# Altium schematic symbol library WE-PD3.SchLib: 65 symbols (part 1 of 2)
Pins are listed as number, name and electrical type; pins without a type are passive.

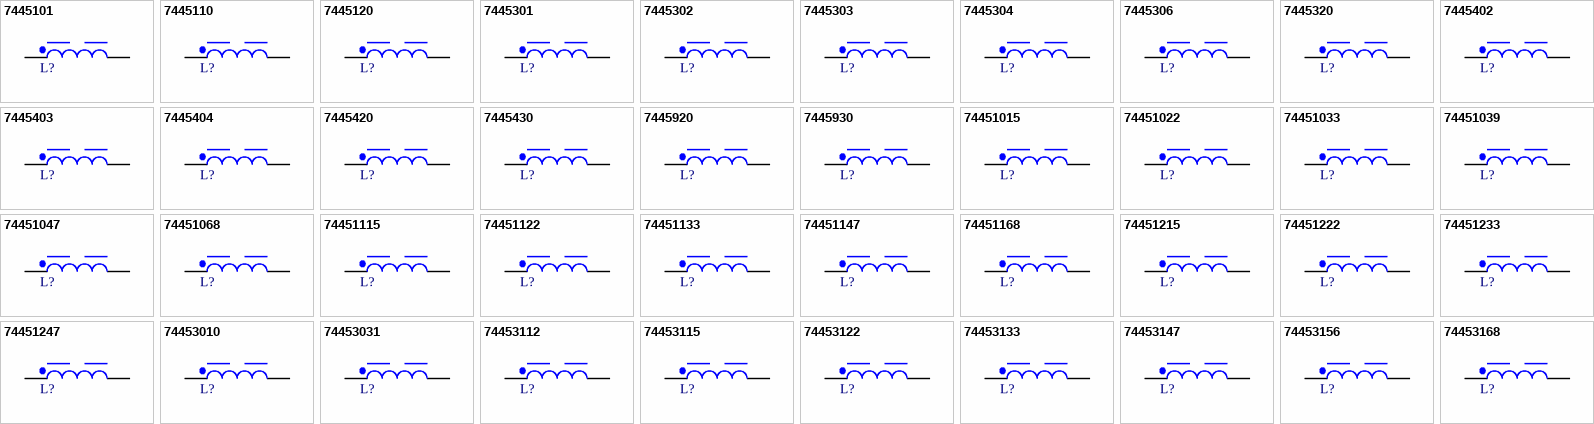
[diagram p0: symbols 7445101 to 74453168]

## 7445101
designator L?, comment 1µH, 3A  (value not drawn)
WE-PD3 SMT Power Inductor, Type S, 1µH, 3A, 0.04Ω; Manufacturer Part Number: 7445101; Manufacturer: Wurth Elektronik; Case/Size Code: Type S; DC Resistance: 0.014Ω; Saturation Current: 1.62A; Self Resonant Frequency: 83MHz; Category: Shielded Power Inductors; Match Code: WE-PD3; ComponentLink1Description: Website Link; ComponentLink1URL: https://www.we-online.com/redexpert/article/7445101?ad; ComponentLink2Description: Datasheet Link; ComponentLink2URL: https://www.we-online.com/redexpert/spec/7445101?ad; Mount: Surface Mount; Operating Temperature Max: 125°C; Operating Temperature Min: -40°C; Packaging: Tape and Reel; Length: 6.6mm; Width: 4.45mm; Height: 2.92mm; DC Resistance Max: 0.04Ω; Inductance: 1µH; Rated Current: 3A
footprint WE-PD3_Type S
simulation model TypeS_7445101_1u
pins: 1, 2

## 7445110
designator L?, comment 10µH, 1A  (value not drawn)
WE-PD3 SMT Power Inductor, Type S, 10µH, 1A, 0.075Ω; Manufacturer Part Number: 7445110; Manufacturer: Wurth Elektronik; Case/Size Code: Type S; DC Resistance: 0.056Ω; Saturation Current: 0.45A; Self Resonant Frequency: 30MHz; Category: Shielded Power Inductors; Match Code: WE-PD3; ComponentLink1Description: Website Link; ComponentLink1URL: https://www.we-online.com/redexpert/article/7445110?ad; ComponentLink2Description: Datasheet Link; ComponentLink2URL: https://www.we-online.com/redexpert/spec/7445110?ad; Mount: Surface Mount; Operating Temperature Max: 125°C; Operating Temperature Min: -40°C; Packaging: Tape and Reel; Length: 6.6mm; Width: 4.45mm; Height: 2.92mm; DC Resistance Max: 0.075Ω; Inductance: 10µH; Rated Current: 1A
footprint WE-PD3_Type S
simulation model TypeS_7445110_10u
pins: 1, 2

## 7445120
designator L?, comment 100µH, 0.3A  (value not drawn)
WE-PD3 SMT Power Inductor, Type S, 100µH, 0.3A, 0.48Ω; Manufacturer Part Number: 7445120; Manufacturer: Wurth Elektronik; Case/Size Code: Type S; DC Resistance: 0.393Ω; Saturation Current: 0.09A; Self Resonant Frequency: 8MHz; Category: Shielded Power Inductors; Match Code: WE-PD3; ComponentLink1Description: Website Link; ComponentLink1URL: https://www.we-online.com/redexpert/article/7445120?ad; ComponentLink2Description: Datasheet Link; ComponentLink2URL: https://www.we-online.com/redexpert/spec/7445120?ad; Mount: Surface Mount; Operating Temperature Max: 125°C; Operating Temperature Min: -40°C; Packaging: Tape and Reel; Length: 6.6mm; Width: 4.45mm; Height: 2.92mm; DC Resistance Max: 0.48Ω; Inductance: 100µH; Rated Current: 0.3A
footprint WE-PD3_Type S
simulation model TypeS_7445120_100u
pins: 1, 2

## 7445301
designator L?, comment 1.5µH, 3A  (value not drawn)
WE-PD3 SMT Power Inductor, Type M, 1.5µH, 3A, 0.038Ω; Manufacturer Part Number: 7445301; Manufacturer: Wurth Elektronik; Case/Size Code: Type M; DC Resistance: 0.029Ω; Saturation Current: 6.3A; Self Resonant Frequency: 90MHz; Category: Shielded Power Inductors; Match Code: WE-PD3; ComponentLink1Description: Website Link; ComponentLink1URL: https://www.we-online.com/redexpert/article/7445301?ad; ComponentLink2Description: Datasheet Link; ComponentLink2URL: https://www.we-online.com/redexpert/spec/7445301?ad; Mount: Surface Mount; Operating Temperature Max: 125°C; Operating Temperature Min: -40°C; Packaging: Tape and Reel; Length: 12.7mm; Width: 10.1mm; Height: 2.7mm; DC Resistance Max: 0.038Ω; Inductance: 1.5µH; Rated Current: 3A
footprint WE-PD3_Type M
simulation model TypeM_7445301_1.5u
pins: 1, 2

## 7445302
designator L?, comment 2.2µH, 2.76A  (value not drawn)
WE-PD3 SMT Power Inductor, Type M, 2.2µH, 2.76A, 0.045Ω; Manufacturer Part Number: 7445302; Manufacturer: Wurth Elektronik; Case/Size Code: Type M; DC Resistance: 0.037Ω; Saturation Current: 6A; Self Resonant Frequency: 70MHz; Category: Shielded Power Inductors; Match Code: WE-PD3; ComponentLink1Description: Website Link; ComponentLink1URL: https://www.we-online.com/redexpert/article/7445302?ad; ComponentLink2Description: Datasheet Link; ComponentLink2URL: https://www.we-online.com/redexpert/spec/7445302?ad; Mount: Surface Mount; Operating Temperature Max: 125°C; Operating Temperature Min: -40°C; Packaging: Tape and Reel; Length: 12.7mm; Width: 10.1mm; Height: 2.7mm; DC Resistance Max: 0.045Ω; Inductance: 2.2µH; Rated Current: 2.76A
footprint WE-PD3_Type M
simulation model TypeM_7445302_2.2u
pins: 1, 2

## 7445303
designator L?, comment 3.9µH, 2.1A  (value not drawn)
WE-PD3 SMT Power Inductor, Type M, 3.9µH, 2.1A, 0.07Ω; Manufacturer Part Number: 7445303; Manufacturer: Wurth Elektronik; Case/Size Code: Type M; DC Resistance: 0.058Ω; Saturation Current: 4.2A; Self Resonant Frequency: 48MHz; Category: Shielded Power Inductors; Match Code: WE-PD3; ComponentLink1Description: Website Link; ComponentLink1URL: https://www.we-online.com/redexpert/article/7445303?ad; ComponentLink2Description: Datasheet Link; ComponentLink2URL: https://www.we-online.com/redexpert/spec/7445303?ad; Mount: Surface Mount; Operating Temperature Max: 125°C; Operating Temperature Min: -40°C; Packaging: Tape and Reel; Length: 12.7mm; Width: 10.1mm; Height: 2.7mm; DC Resistance Max: 0.07Ω; Inductance: 3.9µH; Rated Current: 2.1A
footprint WE-PD3_Type M
simulation model TypeM_7445303_3.9u
pins: 1, 2

## 7445304
designator L?, comment 4.7µH, 1.9A  (value not drawn)
WE-PD3 SMT Power Inductor, Type M, 4.7µH, 1.9A, 0.078Ω; Manufacturer Part Number: 7445304; Manufacturer: Wurth Elektronik; Case/Size Code: Type M; DC Resistance: 0.065Ω; Saturation Current: 3.6A; Self Resonant Frequency: 44MHz; Category: Shielded Power Inductors; Match Code: WE-PD3; ComponentLink1Description: Website Link; ComponentLink1URL: https://www.we-online.com/redexpert/article/7445304?ad; ComponentLink2Description: Datasheet Link; ComponentLink2URL: https://www.we-online.com/redexpert/spec/7445304?ad; Mount: Surface Mount; Operating Temperature Max: 125°C; Operating Temperature Min: -40°C; Packaging: Tape and Reel; Length: 12.7mm; Width: 10.1mm; Height: 2.7mm; DC Resistance Max: 0.078Ω; Inductance: 4.7µH; Rated Current: 1.9A
footprint WE-PD3_Type M
simulation model TypeM_7445304_4.7u
pins: 1, 2

## 7445306
designator L?, comment 6.8µH, 1.6A  (value not drawn)
WE-PD3 SMT Power Inductor, Type M, 6.8µH, 1.6A, 0.085Ω; Manufacturer Part Number: 7445306; Manufacturer: Wurth Elektronik; Case/Size Code: Type M; DC Resistance: 0.064Ω; Saturation Current: 3.3A; Self Resonant Frequency: 36MHz; Category: Shielded Power Inductors; Match Code: WE-PD3; ComponentLink1Description: Website Link; ComponentLink1URL: https://www.we-online.com/redexpert/article/7445306?ad; ComponentLink2Description: Datasheet Link; ComponentLink2URL: https://www.we-online.com/redexpert/spec/7445306?ad; Mount: Surface Mount; Operating Temperature Max: 125°C; Operating Temperature Min: -40°C; Packaging: Tape and Reel; Length: 12.7mm; Width: 10.1mm; Height: 2.7mm; DC Resistance Max: 0.085Ω; Inductance: 6.8µH; Rated Current: 1.6A
footprint WE-PD3_Type M
simulation model TypeM_7445306_6.8u
pins: 1, 2

## 7445320
designator L?, comment 100µH, 0.4A  (value not drawn)
WE-PD3 SMT Power Inductor, Type M, 100µH, 0.4A, 1.4Ω; Manufacturer Part Number: 7445320; Manufacturer: Wurth Elektronik; Case/Size Code: Type M; DC Resistance: 1.164Ω; Saturation Current: 0.7A; Self Resonant Frequency: 8MHz; Category: Shielded Power Inductors; Match Code: WE-PD3; ComponentLink1Description: Website Link; ComponentLink1URL: https://www.we-online.com/redexpert/article/7445320?ad; ComponentLink2Description: Datasheet Link; ComponentLink2URL: https://www.we-online.com/redexpert/spec/7445320?ad; Mount: Surface Mount; Operating Temperature Max: 125°C; Operating Temperature Min: -40°C; Packaging: Tape and Reel; Length: 12.7mm; Width: 10.1mm; Height: 2.7mm; DC Resistance Max: 1.4Ω; Inductance: 100µH; Rated Current: 0.4A
footprint WE-PD3_Type M
simulation model TypeM_7445320_100u
pins: 1, 2

## 7445402
designator L?, comment 2.2µH, 3.8A  (value not drawn)
WE-PD3 SMT Power Inductor, Type L, 2.2µH, 3.8A, 0.027Ω; Manufacturer Part Number: 7445402; Manufacturer: Wurth Elektronik; Case/Size Code: Type L; DC Resistance: 0.023Ω; Saturation Current: 6.8A; Self Resonant Frequency: 85MHz; Category: Shielded Power Inductors; Match Code: WE-PD3; ComponentLink1Description: Website Link; ComponentLink1URL: https://www.we-online.com/redexpert/article/7445402?ad; ComponentLink2Description: Datasheet Link; ComponentLink2URL: https://www.we-online.com/redexpert/spec/7445402?ad; Mount: Surface Mount; Operating Temperature Max: 125°C; Operating Temperature Min: -40°C; Packaging: Tape and Reel; Length: 12.7mm; Width: 10mm; Height: 4.9mm; DC Resistance Max: 0.027Ω; Inductance: 2.2µH; Rated Current: 3.8A
footprint WE-PD3_Type L
simulation model TypeL_7445402_2.2u
pins: 1, 2

## 7445403
designator L?, comment 3µH, 2.9A  (value not drawn)
WE-PD3 SMT Power Inductor, Type L, 3µH, 2.9A, 0.03Ω; Manufacturer Part Number: 7445403; Manufacturer: Wurth Elektronik; Case/Size Code: Type L; DC Resistance: 0.026Ω; Saturation Current: 5.9A; Self Resonant Frequency: 70MHz; Category: Shielded Power Inductors; Match Code: WE-PD3; ComponentLink1Description: Website Link; ComponentLink1URL: https://www.we-online.com/redexpert/article/7445403?ad; ComponentLink2Description: Datasheet Link; ComponentLink2URL: https://www.we-online.com/redexpert/spec/7445403?ad; Mount: Surface Mount; Operating Temperature Max: 125°C; Operating Temperature Min: -40°C; Packaging: Tape and Reel; Length: 12.7mm; Width: 10mm; Height: 4.9mm; DC Resistance Max: 0.03Ω; Inductance: 3µH; Rated Current: 2.9A
footprint WE-PD3_Type L
simulation model TypeL_7445403_3u
pins: 1, 2

## 7445404
designator L?, comment 4.7µH, 2.7A  (value not drawn)
WE-PD3 SMT Power Inductor, Type L, 4.7µH, 2.7A, 0.04Ω; Manufacturer Part Number: 7445404; Manufacturer: Wurth Elektronik; Case/Size Code: Type L; DC Resistance: 0.034Ω; Saturation Current: 4.7A; Self Resonant Frequency: 48MHz; Category: Shielded Power Inductors; Match Code: WE-PD3; ComponentLink1Description: Website Link; ComponentLink1URL: https://www.we-online.com/redexpert/article/7445404?ad; ComponentLink2Description: Datasheet Link; ComponentLink2URL: https://www.we-online.com/redexpert/spec/7445404?ad; Mount: Surface Mount; Operating Temperature Max: 125°C; Operating Temperature Min: -40°C; Packaging: Tape and Reel; Length: 12.7mm; Width: 10mm; Height: 4.9mm; DC Resistance Max: 0.04Ω; Inductance: 4.7µH; Rated Current: 2.7A
footprint WE-PD3_Type L
simulation model TypeL_7445404_4.7u
pins: 1, 2

## 7445420
designator L?, comment 100µH, 0.68A  (value not drawn)
WE-PD3 SMT Power Inductor, Type L, 100µH, 0.68A, 0.42Ω; Manufacturer Part Number: 7445420; Manufacturer: Wurth Elektronik; Case/Size Code: Type L; DC Resistance: 0.373Ω; Saturation Current: 1.1A; Self Resonant Frequency: 7.5MHz; Category: Shielded Power Inductors; Match Code: WE-PD3; ComponentLink1Description: Website Link; ComponentLink1URL: https://www.we-online.com/redexpert/article/7445420?ad; ComponentLink2Description: Datasheet Link; ComponentLink2URL: https://www.we-online.com/redexpert/spec/7445420?ad; Mount: Surface Mount; Operating Temperature Max: 125°C; Operating Temperature Min: -40°C; Packaging: Tape and Reel; Length: 12.7mm; Width: 10mm; Height: 4.9mm; DC Resistance Max: 0.42Ω; Inductance: 100µH; Rated Current: 0.68A
footprint WE-PD3_Type L
simulation model TypeL_7445420_100u
pins: 1, 2

## 7445430
designator L?, comment 1000µH, 0.22A  (value not drawn)
WE-PD3 SMT Power Inductor, Type L, 1000µH, 0.22A, 3.2Ω; Manufacturer Part Number: 7445430; Manufacturer: Wurth Elektronik; Case/Size Code: Type L; DC Resistance: 2.75Ω; Saturation Current: 0.35A; Self Resonant Frequency: 2.2MHz; Category: Shielded Power Inductors; Match Code: WE-PD3; ComponentLink1Description: Website Link; ComponentLink1URL: https://www.we-online.com/redexpert/article/7445430?ad; ComponentLink2Description: Datasheet Link; ComponentLink2URL: https://www.we-online.com/redexpert/spec/7445430?ad; Mount: Surface Mount; Operating Temperature Max: 125°C; Operating Temperature Min: -40°C; Packaging: Tape and Reel; Length: 12.7mm; Width: 10mm; Height: 4.9mm; DC Resistance Max: 3.2Ω; Inductance: 1000µH; Rated Current: 0.22A
footprint WE-PD3_Type L
simulation model TypeL_7445430_1m
pins: 1, 2

## 7445920
designator L?, comment 100µH, 1.7A  (value not drawn)
WE-PD3 SMT Power Inductor, Type X, 100µH, 1.7A, 0.207Ω; Manufacturer Part Number: 7445920; Manufacturer: Wurth Elektronik; Case/Size Code: Type X; DC Resistance: 0.151Ω; Saturation Current: 2.4A; Self Resonant Frequency: 5.5MHz; Category: Shielded Power Inductors; Match Code: WE-PD3; ComponentLink1Description: Website Link; ComponentLink1URL: https://www.we-online.com/redexpert/article/7445920?ad; ComponentLink2Description: Datasheet Link; ComponentLink2URL: https://www.we-online.com/redexpert/spec/7445920?ad; Mount: Surface Mount; Operating Temperature Max: 125°C; Operating Temperature Min: -40°C; Packaging: Tape and Reel; Length: 18.54mm; Width: 15.24mm; Height: 7.62mm; DC Resistance Max: 0.207Ω; Inductance: 100µH; Rated Current: 1.7A
footprint WE-PD3_Type X
simulation model TypeX_7445920_100u
pins: 1, 2

## 7445930
designator L?, comment 1000µH, 0.6A  (value not drawn)
WE-PD3 SMT Power Inductor, Type X, 1000µH, 0.6A, 2.01Ω; Manufacturer Part Number: 7445930; Manufacturer: Wurth Elektronik; Case/Size Code: Type X; DC Resistance: 1.427Ω; Saturation Current: 0.8A; Self Resonant Frequency: 1.6MHz; Category: Shielded Power Inductors; Match Code: WE-PD3; ComponentLink1Description: Website Link; ComponentLink1URL: https://www.we-online.com/redexpert/article/7445930?ad; ComponentLink2Description: Datasheet Link; ComponentLink2URL: https://www.we-online.com/redexpert/spec/7445930?ad; Mount: Surface Mount; Operating Temperature Max: 125°C; Operating Temperature Min: -40°C; Packaging: Tape and Reel; Length: 18.54mm; Width: 15.24mm; Height: 7.62mm; DC Resistance Max: 2.01Ω; Inductance: 1000µH; Rated Current: 0.6A
footprint WE-PD3_Type X
simulation model TypeX_7445930_1m
pins: 1, 2

## 74451015
designator L?, comment 1.5µH, 2.8A  (value not drawn)
WE-PD3 SMT Power Inductor, Type S, 1.5µH, 2.8A, 0.045Ω; Manufacturer Part Number: 74451015; Manufacturer: Wurth Elektronik; Case/Size Code: Type S; DC Resistance: 0.018Ω; Saturation Current: 1.13A; Self Resonant Frequency: 80MHz; Category: Shielded Power Inductors; Match Code: WE-PD3; ComponentLink1Description: Website Link; ComponentLink1URL: https://www.we-online.com/redexpert/article/74451015?ad; ComponentLink2Description: Datasheet Link; ComponentLink2URL: https://www.we-online.com/redexpert/spec/74451015?ad; Mount: Surface Mount; Operating Temperature Max: 125°C; Operating Temperature Min: -40°C; Packaging: Tape and Reel; Length: 6.6mm; Width: 4.45mm; Height: 2.92mm; DC Resistance Max: 0.045Ω; Inductance: 1.5µH; Rated Current: 2.8A
footprint WE-PD3_Type S
simulation model TypeS_74451015_1.5u
pins: 1, 2

## 74451022
designator L?, comment 2.2µH, 1.8A  (value not drawn)
WE-PD3 SMT Power Inductor, Type S, 2.2µH, 1.8A, 0.05Ω; Manufacturer Part Number: 74451022; Manufacturer: Wurth Elektronik; Case/Size Code: Type S; DC Resistance: 0.021Ω; Saturation Current: 1.08A; Self Resonant Frequency: 65MHz; Category: Shielded Power Inductors; Match Code: WE-PD3; ComponentLink1Description: Website Link; ComponentLink1URL: https://www.we-online.com/redexpert/article/74451022?ad; ComponentLink2Description: Datasheet Link; ComponentLink2URL: https://www.we-online.com/redexpert/spec/74451022?ad; Mount: Surface Mount; Operating Temperature Max: 125°C; Operating Temperature Min: -40°C; Packaging: Tape and Reel; Length: 6.6mm; Width: 4.45mm; Height: 2.92mm; DC Resistance Max: 0.05Ω; Inductance: 2.2µH; Rated Current: 1.8A
footprint WE-PD3_Type S
simulation model TypeS_74451022_2.2u
pins: 1, 2

## 74451033
designator L?, comment 3.3µH, 1.6A  (value not drawn)
WE-PD3 SMT Power Inductor, Type S, 3.3µH, 1.6A, 0.055Ω; Manufacturer Part Number: 74451033; Manufacturer: Wurth Elektronik; Case/Size Code: Type S; DC Resistance: 0.025Ω; Saturation Current: 0.77A; Self Resonant Frequency: 60MHz; Category: Shielded Power Inductors; Match Code: WE-PD3; ComponentLink1Description: Website Link; ComponentLink1URL: https://www.we-online.com/redexpert/article/74451033?ad; ComponentLink2Description: Datasheet Link; ComponentLink2URL: https://www.we-online.com/redexpert/spec/74451033?ad; Mount: Surface Mount; Operating Temperature Max: 125°C; Operating Temperature Min: -40°C; Packaging: Tape and Reel; Length: 6.6mm; Width: 4.45mm; Height: 2.92mm; DC Resistance Max: 0.055Ω; Inductance: 3.3µH; Rated Current: 1.6A
footprint WE-PD3_Type S
simulation model TypeS_74451033_3.3u
pins: 1, 2

## 74451039
designator L?, comment 3.9µH, 1.5A  (value not drawn)
WE-PD3 SMT Power Inductor, Type S, 3.9µH, 1.5A, 0.057Ω; Manufacturer Part Number: 74451039; Manufacturer: Wurth Elektronik; Case/Size Code: Type S; DC Resistance: 0.04Ω; Saturation Current: 0.77A; Self Resonant Frequency: 53MHz; Category: Shielded Power Inductors; Match Code: WE-PD3; ComponentLink1Description: Website Link; ComponentLink1URL: https://www.we-online.com/redexpert/article/74451039?ad; ComponentLink2Description: Datasheet Link; ComponentLink2URL: https://www.we-online.com/redexpert/spec/74451039?ad; Mount: Surface Mount; Operating Temperature Max: 125°C; Operating Temperature Min: -40°C; Packaging: Tape and Reel; Length: 6.6mm; Width: 4.45mm; Height: 2.92mm; DC Resistance Max: 0.057Ω; Inductance: 3.9µH; Rated Current: 1.5A
footprint WE-PD3_Type S
simulation model TypeS_74451039_4.3u
pins: 1, 2

## 74451047
designator L?, comment 4.7µH, 1.4A  (value not drawn)
WE-PD3 SMT Power Inductor, Type S, 4.7µH, 1.4A, 0.06Ω; Manufacturer Part Number: 74451047; Manufacturer: Wurth Elektronik; Case/Size Code: Type S; DC Resistance: 0.045Ω; Saturation Current: 0.72A; Self Resonant Frequency: 46MHz; Category: Shielded Power Inductors; Match Code: WE-PD3; ComponentLink1Description: Website Link; ComponentLink1URL: https://www.we-online.com/redexpert/article/74451047?ad; ComponentLink2Description: Datasheet Link; ComponentLink2URL: https://www.we-online.com/redexpert/spec/74451047?ad; Mount: Surface Mount; Operating Temperature Max: 125°C; Operating Temperature Min: -40°C; Packaging: Tape and Reel; Length: 6.6mm; Width: 4.45mm; Height: 2.92mm; DC Resistance Max: 0.06Ω; Inductance: 4.7µH; Rated Current: 1.4A
footprint WE-PD3_Type S
simulation model TypeS_74451047_4.7u
pins: 1, 2

## 74451068
designator L?, comment 6.8µH, 1.2A  (value not drawn)
WE-PD3 SMT Power Inductor, Type S, 6.8µH, 1.2A, 0.065Ω; Manufacturer Part Number: 74451068; Manufacturer: Wurth Elektronik; Case/Size Code: Type S; DC Resistance: 0.055Ω; Saturation Current: 0.5A; Self Resonant Frequency: 36.5MHz; Category: Shielded Power Inductors; Match Code: WE-PD3; ComponentLink1Description: Website Link; ComponentLink1URL: https://www.we-online.com/redexpert/article/74451068?ad; ComponentLink2Description: Datasheet Link; ComponentLink2URL: https://www.we-online.com/redexpert/spec/74451068?ad; Mount: Surface Mount; Operating Temperature Max: 125°C; Operating Temperature Min: -40°C; Packaging: Tape and Reel; Length: 6.6mm; Width: 4.45mm; Height: 2.92mm; DC Resistance Max: 0.065Ω; Inductance: 6.8µH; Rated Current: 1.2A
footprint WE-PD3_Type S
simulation model TypeS_74451068_6.8u
pins: 1, 2

## 74451115
designator L?, comment 15µH, 0.8A  (value not drawn)
WE-PD3 SMT Power Inductor, Type S, 15µH, 0.8A, 0.09Ω; Manufacturer Part Number: 74451115; Manufacturer: Wurth Elektronik; Case/Size Code: Type S; DC Resistance: 0.075Ω; Saturation Current: 0.27A; Self Resonant Frequency: 25.5MHz; Category: Shielded Power Inductors; Match Code: WE-PD3; ComponentLink1Description: Website Link; ComponentLink1URL: https://www.we-online.com/redexpert/article/74451115?ad; ComponentLink2Description: Datasheet Link; ComponentLink2URL: https://www.we-online.com/redexpert/spec/74451115?ad; Mount: Surface Mount; Operating Temperature Max: 125°C; Operating Temperature Min: -40°C; Packaging: Tape and Reel; Length: 6.6mm; Width: 4.45mm; Height: 2.92mm; DC Resistance Max: 0.09Ω; Inductance: 15µH; Rated Current: 0.8A
footprint WE-PD3_Type S
simulation model TypeS_74451115_15u
pins: 1, 2

## 74451122
designator L?, comment 22µH, 0.7A  (value not drawn)
WE-PD3 SMT Power Inductor, Type S, 22µH, 0.7A, 0.11Ω; Manufacturer Part Number: 74451122; Manufacturer: Wurth Elektronik; Case/Size Code: Type S; DC Resistance: 0.09Ω; Saturation Current: 0.16A; Self Resonant Frequency: 20.5MHz; Category: Shielded Power Inductors; Match Code: WE-PD3; ComponentLink1Description: Website Link; ComponentLink1URL: https://www.we-online.com/redexpert/article/74451122?ad; ComponentLink2Description: Datasheet Link; ComponentLink2URL: https://www.we-online.com/redexpert/spec/74451122?ad; Mount: Surface Mount; Operating Temperature Max: 125°C; Operating Temperature Min: -40°C; Packaging: Tape and Reel; Length: 6.6mm; Width: 4.45mm; Height: 2.92mm; DC Resistance Max: 0.11Ω; Inductance: 22µH; Rated Current: 0.7A
footprint WE-PD3_Type S
simulation model TypeS_74451122_22u
pins: 1, 2

## 74451133
designator L?, comment 33µH, 0.6A  (value not drawn)
WE-PD3 SMT Power Inductor, Type S, 33µH, 0.6A, 0.19Ω; Manufacturer Part Number: 74451133; Manufacturer: Wurth Elektronik; Case/Size Code: Type S; DC Resistance: 0.114Ω; Saturation Current: 0.15A; Self Resonant Frequency: 14.5MHz; Category: Shielded Power Inductors; Match Code: WE-PD3; ComponentLink1Description: Website Link; ComponentLink1URL: https://www.we-online.com/redexpert/article/74451133?ad; ComponentLink2Description: Datasheet Link; ComponentLink2URL: https://www.we-online.com/redexpert/spec/74451133?ad; Mount: Surface Mount; Operating Temperature Max: 125°C; Operating Temperature Min: -40°C; Packaging: Tape and Reel; Length: 6.6mm; Width: 4.45mm; Height: 2.92mm; DC Resistance Max: 0.19Ω; Inductance: 33µH; Rated Current: 0.6A
footprint WE-PD3_Type S
simulation model TypeS_74451133_33u
pins: 1, 2

## 74451147
designator L?, comment 47µH, 0.5A  (value not drawn)
WE-PD3 SMT Power Inductor, Type S, 47µH, 0.5A, 0.23Ω; Manufacturer Part Number: 74451147; Manufacturer: Wurth Elektronik; Case/Size Code: Type S; DC Resistance: 0.16Ω; Saturation Current: 0.14A; Self Resonant Frequency: 11.5MHz; Category: Shielded Power Inductors; Match Code: WE-PD3; ComponentLink1Description: Website Link; ComponentLink1URL: https://www.we-online.com/redexpert/article/74451147?ad; ComponentLink2Description: Datasheet Link; ComponentLink2URL: https://www.we-online.com/redexpert/spec/74451147?ad; Mount: Surface Mount; Operating Temperature Max: 125°C; Operating Temperature Min: -40°C; Packaging: Tape and Reel; Length: 6.6mm; Width: 4.45mm; Height: 2.92mm; DC Resistance Max: 0.23Ω; Inductance: 47µH; Rated Current: 0.5A
footprint WE-PD3_Type S
simulation model TypeS_74451147_47u
pins: 1, 2

## 74451168
designator L?, comment 68µH, 0.4A  (value not drawn)
WE-PD3 SMT Power Inductor, Type S, 68µH, 0.4A, 0.29Ω; Manufacturer Part Number: 74451168; Manufacturer: Wurth Elektronik; Case/Size Code: Type S; DC Resistance: 0.221Ω; Saturation Current: 0.12A; Self Resonant Frequency: 10MHz; Category: Shielded Power Inductors; Match Code: WE-PD3; ComponentLink1Description: Website Link; ComponentLink1URL: https://www.we-online.com/redexpert/article/74451168?ad; ComponentLink2Description: Datasheet Link; ComponentLink2URL: https://www.we-online.com/redexpert/spec/74451168?ad; Mount: Surface Mount; Operating Temperature Max: 125°C; Operating Temperature Min: -40°C; Packaging: Tape and Reel; Length: 6.6mm; Width: 4.45mm; Height: 2.92mm; DC Resistance Max: 0.29Ω; Inductance: 68µH; Rated Current: 0.4A
footprint WE-PD3_Type S
simulation model TypeS_74451168_68u
pins: 1, 2

## 74451215
designator L?, comment 150µH, 0.26A  (value not drawn)
WE-PD3 SMT Power Inductor, Type S, 150µH, 0.26A, 0.59Ω; Manufacturer Part Number: 74451215; Manufacturer: Wurth Elektronik; Case/Size Code: Type S; DC Resistance: 0.41Ω; Saturation Current: 0.05A; Self Resonant Frequency: 6MHz; Category: Shielded Power Inductors; Match Code: WE-PD3; ComponentLink1Description: Website Link; ComponentLink1URL: https://www.we-online.com/redexpert/article/74451215?ad; ComponentLink2Description: Datasheet Link; ComponentLink2URL: https://www.we-online.com/redexpert/spec/74451215?ad; Mount: Surface Mount; Operating Temperature Max: 125°C; Operating Temperature Min: -40°C; Packaging: Tape and Reel; Length: 6.6mm; Width: 4.45mm; Height: 2.92mm; DC Resistance Max: 0.59Ω; Inductance: 150µH; Rated Current: 0.26A
footprint WE-PD3_Type S
simulation model TypeS_74451215_150u
pins: 1, 2

## 74451222
designator L?, comment 220µH, 0.22A  (value not drawn)
WE-PD3 SMT Power Inductor, Type S, 220µH, 0.22A, 0.77Ω; Manufacturer Part Number: 74451222; Manufacturer: Wurth Elektronik; Case/Size Code: Type S; DC Resistance: 0.58Ω; Saturation Current: 0.08A; Self Resonant Frequency: 5MHz; Category: Shielded Power Inductors; Match Code: WE-PD3; ComponentLink1Description: Website Link; ComponentLink1URL: https://www.we-online.com/redexpert/article/74451222?ad; ComponentLink2Description: Datasheet Link; ComponentLink2URL: https://www.we-online.com/redexpert/spec/74451222?ad; Mount: Surface Mount; Operating Temperature Max: 125°C; Operating Temperature Min: -40°C; Packaging: Tape and Reel; Length: 6.6mm; Width: 4.45mm; Height: 2.92mm; DC Resistance Max: 0.77Ω; Inductance: 220µH; Rated Current: 0.22A
footprint WE-PD3_Type S
simulation model TypeS_74451222_220u
pins: 1, 2

## 74451233
designator L?, comment 330µH, 0.2A  (value not drawn)
WE-PD3 SMT Power Inductor, Type S, 330µH, 0.2A, 1.4Ω; Manufacturer Part Number: 74451233; Manufacturer: Wurth Elektronik; Case/Size Code: Type S; DC Resistance: 1Ω; Saturation Current: 0.02A; Self Resonant Frequency: 3.2MHz; Category: Shielded Power Inductors; Match Code: WE-PD3; ComponentLink1Description: Website Link; ComponentLink1URL: https://www.we-online.com/redexpert/article/74451233?ad; ComponentLink2Description: Datasheet Link; ComponentLink2URL: https://www.we-online.com/redexpert/spec/74451233?ad; Mount: Surface Mount; Operating Temperature Max: 125°C; Operating Temperature Min: -40°C; Packaging: Tape and Reel; Length: 6.6mm; Width: 4.45mm; Height: 2.92mm; DC Resistance Max: 1.4Ω; Inductance: 330µH; Rated Current: 0.2A
footprint WE-PD3_Type S
simulation model TypeS_74451233_330u
pins: 1, 2

## 74451247
designator L?, comment 470µH, 0.19A  (value not drawn)
WE-PD3 SMT Power Inductor, Type S, 470µH, 0.19A, 1.8Ω; Manufacturer Part Number: 74451247; Manufacturer: Wurth Elektronik; Case/Size Code: Type S; DC Resistance: 1.7Ω; Saturation Current: 0.02A; Self Resonant Frequency: 3MHz; Category: Shielded Power Inductors; Match Code: WE-PD3; ComponentLink1Description: Website Link; ComponentLink1URL: https://www.we-online.com/redexpert/article/74451247?ad; ComponentLink2Description: Datasheet Link; ComponentLink2URL: https://www.we-online.com/redexpert/spec/74451247?ad; Mount: Surface Mount; Operating Temperature Max: 125°C; Operating Temperature Min: -40°C; Packaging: Tape and Reel; Length: 6.6mm; Width: 4.45mm; Height: 2.92mm; DC Resistance Max: 1.8Ω; Inductance: 470µH; Rated Current: 0.19A
footprint WE-PD3_Type S
simulation model TypeS_74451247_470u
pins: 1, 2

## 74453010
designator L?, comment 10µH, 1.24A  (value not drawn)
WE-PD3 SMT Power Inductor, Type M, 10µH, 1.24A, 0.145Ω; Manufacturer Part Number: 74453010; Manufacturer: Wurth Elektronik; Case/Size Code: Type M; DC Resistance: 0.117Ω; Saturation Current: 2.9A; Self Resonant Frequency: 29MHz; Category: Shielded Power Inductors; Match Code: WE-PD3; ComponentLink1Description: Website Link; ComponentLink1URL: https://www.we-online.com/redexpert/article/74453010?ad; ComponentLink2Description: Datasheet Link; ComponentLink2URL: https://www.we-online.com/redexpert/spec/74453010?ad; Mount: Surface Mount; Operating Temperature Max: 125°C; Operating Temperature Min: -40°C; Packaging: Tape and Reel; Length: 12.7mm; Width: 10.1mm; Height: 2.7mm; DC Resistance Max: 0.145Ω; Inductance: 10µH; Rated Current: 1.24A
footprint WE-PD3_Type M
simulation model TypeM_74453010_10u
pins: 1, 2

## 74453031
designator L?, comment 3.3µH, 2.2A  (value not drawn)
WE-PD3 SMT Power Inductor, Type M, 3.3µH, 2.2A, 0.062Ω; Manufacturer Part Number: 74453031; Manufacturer: Wurth Elektronik; Case/Size Code: Type M; DC Resistance: 0.052Ω; Saturation Current: 5.4A; Self Resonant Frequency: 50MHz; Category: Shielded Power Inductors; Match Code: WE-PD3; ComponentLink1Description: Website Link; ComponentLink1URL: https://www.we-online.com/redexpert/article/74453031?ad; ComponentLink2Description: Datasheet Link; ComponentLink2URL: https://www.we-online.com/redexpert/spec/74453031?ad; Mount: Surface Mount; Operating Temperature Max: 125°C; Operating Temperature Min: -40°C; Packaging: Tape and Reel; Length: 12.7mm; Width: 10.1mm; Height: 2.7mm; DC Resistance Max: 0.062Ω; Inductance: 3.3µH; Rated Current: 2.2A
footprint WE-PD3_Type M
simulation model TypeM_74453031_3.3u
pins: 1, 2

## 74453112
designator L?, comment 12µH, 1.1A  (value not drawn)
WE-PD3 SMT Power Inductor, Type M, 12µH, 1.1A, 0.185Ω; Manufacturer Part Number: 74453112; Manufacturer: Wurth Elektronik; Case/Size Code: Type M; DC Resistance: 0.16Ω; Saturation Current: 2.7A; Self Resonant Frequency: 25MHz; Category: Shielded Power Inductors; Match Code: WE-PD3; ComponentLink1Description: Website Link; ComponentLink1URL: https://www.we-online.com/redexpert/article/74453112?ad; ComponentLink2Description: Datasheet Link; ComponentLink2URL: https://www.we-online.com/redexpert/spec/74453112?ad; Mount: Surface Mount; Operating Temperature Max: 125°C; Operating Temperature Min: -40°C; Packaging: Tape and Reel; Length: 12.7mm; Width: 10.1mm; Height: 2.7mm; DC Resistance Max: 0.185Ω; Inductance: 12µH; Rated Current: 1.1A
footprint WE-PD3_Type M
simulation model TypeM_74453112_12u
pins: 1, 2

## 74453115
designator L?, comment 15µH, 1A  (value not drawn)
WE-PD3 SMT Power Inductor, Type M, 15µH, 1A, 0.2Ω; Manufacturer Part Number: 74453115; Manufacturer: Wurth Elektronik; Case/Size Code: Type M; DC Resistance: 0.17Ω; Saturation Current: 2.3A; Self Resonant Frequency: 23MHz; Category: Shielded Power Inductors; Match Code: WE-PD3; ComponentLink1Description: Website Link; ComponentLink1URL: https://www.we-online.com/redexpert/article/74453115?ad; ComponentLink2Description: Datasheet Link; ComponentLink2URL: https://www.we-online.com/redexpert/spec/74453115?ad; Mount: Surface Mount; Operating Temperature Max: 125°C; Operating Temperature Min: -40°C; Packaging: Tape and Reel; Length: 12.7mm; Width: 10.1mm; Height: 2.7mm; DC Resistance Max: 0.2Ω; Inductance: 15µH; Rated Current: 1A
footprint WE-PD3_Type M
simulation model TypeM_74453115_15u
pins: 1, 2

## 74453122
designator L?, comment 22µH, 0.8A  (value not drawn)
WE-PD3 SMT Power Inductor, Type M, 22µH, 0.8A, 0.3Ω; Manufacturer Part Number: 74453122; Manufacturer: Wurth Elektronik; Case/Size Code: Type M; DC Resistance: 0.248Ω; Saturation Current: 1.9A; Self Resonant Frequency: 18MHz; Category: Shielded Power Inductors; Match Code: WE-PD3; ComponentLink1Description: Website Link; ComponentLink1URL: https://www.we-online.com/redexpert/article/74453122?ad; ComponentLink2Description: Datasheet Link; ComponentLink2URL: https://www.we-online.com/redexpert/spec/74453122?ad; Mount: Surface Mount; Operating Temperature Max: 125°C; Operating Temperature Min: -40°C; Packaging: Tape and Reel; Length: 12.7mm; Width: 10.1mm; Height: 2.7mm; DC Resistance Max: 0.3Ω; Inductance: 22µH; Rated Current: 0.8A
footprint WE-PD3_Type M
simulation model TypeM_74453122_22u
pins: 1, 2

## 74453133
designator L?, comment 33µH, 0.7A  (value not drawn)
WE-PD3 SMT Power Inductor, Type M, 33µH, 0.7A, 0.45Ω; Manufacturer Part Number: 74453133; Manufacturer: Wurth Elektronik; Case/Size Code: Type M; DC Resistance: 0.371Ω; Saturation Current: 1.4A; Self Resonant Frequency: 15MHz; Category: Shielded Power Inductors; Match Code: WE-PD3; ComponentLink1Description: Website Link; ComponentLink1URL: https://www.we-online.com/redexpert/article/74453133?ad; ComponentLink2Description: Datasheet Link; ComponentLink2URL: https://www.we-online.com/redexpert/spec/74453133?ad; Mount: Surface Mount; Operating Temperature Max: 125°C; Operating Temperature Min: -40°C; Packaging: Tape and Reel; Length: 12.7mm; Width: 10.1mm; Height: 2.7mm; DC Resistance Max: 0.45Ω; Inductance: 33µH; Rated Current: 0.7A
footprint WE-PD3_Type M
simulation model TypeM_74453133_33u
pins: 1, 2

## 74453147
designator L?, comment 47µH, 0.6A  (value not drawn)
WE-PD3 SMT Power Inductor, Type M, 47µH, 0.6A, 0.65Ω; Manufacturer Part Number: 74453147; Manufacturer: Wurth Elektronik; Case/Size Code: Type M; DC Resistance: 0.481Ω; Saturation Current: 1.3A; Self Resonant Frequency: 12.5MHz; Category: Shielded Power Inductors; Match Code: WE-PD3; ComponentLink1Description: Website Link; ComponentLink1URL: https://www.we-online.com/redexpert/article/74453147?ad; ComponentLink2Description: Datasheet Link; ComponentLink2URL: https://www.we-online.com/redexpert/spec/74453147?ad; Mount: Surface Mount; Operating Temperature Max: 125°C; Operating Temperature Min: -40°C; Packaging: Tape and Reel; Length: 12.7mm; Width: 10.1mm; Height: 2.7mm; DC Resistance Max: 0.65Ω; Inductance: 47µH; Rated Current: 0.6A
footprint WE-PD3_Type M
simulation model TypeM_74453147_47u
pins: 1, 2

## 74453156
designator L?, comment 56µH, 0.52A  (value not drawn)
WE-PD3 SMT Power Inductor, Type M, 56µH, 0.52A, 0.68Ω; Manufacturer Part Number: 74453156; Manufacturer: Wurth Elektronik; Case/Size Code: Type M; DC Resistance: 0.552Ω; Saturation Current: 1.2A; Self Resonant Frequency: 11MHz; Category: Shielded Power Inductors; Match Code: WE-PD3; ComponentLink1Description: Website Link; ComponentLink1URL: https://www.we-online.com/redexpert/article/74453156?ad; ComponentLink2Description: Datasheet Link; ComponentLink2URL: https://www.we-online.com/redexpert/spec/74453156?ad; Mount: Surface Mount; Operating Temperature Max: 125°C; Operating Temperature Min: -40°C; Packaging: Tape and Reel; Length: 12.7mm; Width: 10.1mm; Height: 2.7mm; DC Resistance Max: 0.68Ω; Inductance: 56µH; Rated Current: 0.52A
footprint WE-PD3_Type M
simulation model TypeM_74453156_56u
pins: 1, 2

## 74453168
designator L?, comment 68µH, 0.48A  (value not drawn)
WE-PD3 SMT Power Inductor, Type M, 68µH, 0.48A, 0.8Ω; Manufacturer Part Number: 74453168; Manufacturer: Wurth Elektronik; Case/Size Code: Type M; DC Resistance: 0.62Ω; Saturation Current: 1.1A; Self Resonant Frequency: 10MHz; Category: Shielded Power Inductors; Match Code: WE-PD3; ComponentLink1Description: Website Link; ComponentLink1URL: https://www.we-online.com/redexpert/article/74453168?ad; ComponentLink2Description: Datasheet Link; ComponentLink2URL: https://www.we-online.com/redexpert/spec/74453168?ad; Mount: Surface Mount; Operating Temperature Max: 125°C; Operating Temperature Min: -40°C; Packaging: Tape and Reel; Length: 12.7mm; Width: 10.1mm; Height: 2.7mm; DC Resistance Max: 0.8Ω; Inductance: 68µH; Rated Current: 0.48A
footprint WE-PD3_Type M
simulation model TypeM_74453168_68u
pins: 1, 2

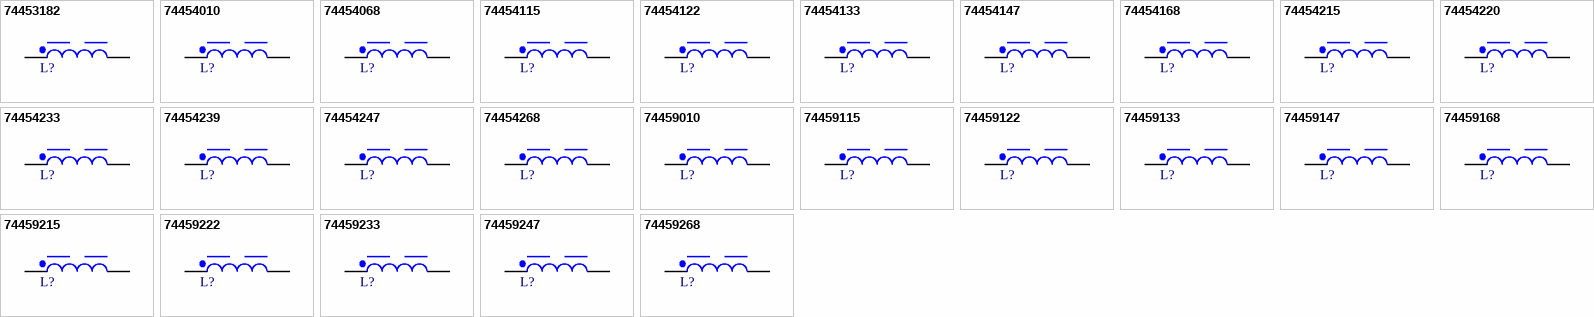
[diagram p1: symbols 74453182 to 74459268]

## 74453182
designator L?, comment 82µH, 0.42A  (value not drawn)
WE-PD3 SMT Power Inductor, Type M, 82µH, 0.42A, 1.2Ω; Manufacturer Part Number: 74453182; Manufacturer: Wurth Elektronik; Case/Size Code: Type M; DC Resistance: 1.03Ω; Saturation Current: 0.9A; Self Resonant Frequency: 9.5MHz; Category: Shielded Power Inductors; Match Code: WE-PD3; ComponentLink1Description: Website Link; ComponentLink1URL: https://www.we-online.com/redexpert/article/74453182?ad; ComponentLink2Description: Datasheet Link; ComponentLink2URL: https://www.we-online.com/redexpert/spec/74453182?ad; Mount: Surface Mount; Operating Temperature Max: 125°C; Operating Temperature Min: -40°C; Packaging: Tape and Reel; Length: 12.7mm; Width: 10.1mm; Height: 2.7mm; DC Resistance Max: 1.2Ω; Inductance: 82µH; Rated Current: 0.42A
footprint WE-PD3_Type M
simulation model TypeM_74453182_82u
pins: 1, 2

## 74454010
designator L?, comment 10µH, 2A  (value not drawn)
WE-PD3 SMT Power Inductor, Type L, 10µH, 2A, 0.065Ω; Manufacturer Part Number: 74454010; Manufacturer: Wurth Elektronik; Case/Size Code: Type L; DC Resistance: 0.048Ω; Saturation Current: 3.2A; Self Resonant Frequency: 25MHz; Category: Shielded Power Inductors; Match Code: WE-PD3; ComponentLink1Description: Website Link; ComponentLink1URL: https://www.we-online.com/redexpert/article/74454010?ad; ComponentLink2Description: Datasheet Link; ComponentLink2URL: https://www.we-online.com/redexpert/spec/74454010?ad; Mount: Surface Mount; Operating Temperature Max: 125°C; Operating Temperature Min: -40°C; Packaging: Tape and Reel; Length: 12.7mm; Width: 10mm; Height: 4.9mm; DC Resistance Max: 0.065Ω; Inductance: 10µH; Rated Current: 2A
footprint WE-PD3_Type L
simulation model TypeL_74454010_10u
pins: 1, 2

## 74454068
designator L?, comment 7µH, 2.2A  (value not drawn)
WE-PD3 SMT Power Inductor, Type L, 7µH, 2.2A, 0.055Ω; Manufacturer Part Number: 74454068; Manufacturer: Wurth Elektronik; Case/Size Code: Type L; DC Resistance: 0.041Ω; Saturation Current: 4.1A; Self Resonant Frequency: 33MHz; Category: Shielded Power Inductors; Match Code: WE-PD3; ComponentLink1Description: Website Link; ComponentLink1URL: https://www.we-online.com/redexpert/article/74454068?ad; ComponentLink2Description: Datasheet Link; ComponentLink2URL: https://www.we-online.com/redexpert/spec/74454068?ad; Mount: Surface Mount; Operating Temperature Max: 125°C; Operating Temperature Min: -40°C; Packaging: Tape and Reel; Length: 12.7mm; Width: 10mm; Height: 4.9mm; DC Resistance Max: 0.055Ω; Inductance: 7µH; Rated Current: 2.2A
footprint WE-PD3_Type L
simulation model TypeL_74454068_7u
pins: 1, 2

## 74454115
designator L?, comment 15µH, 1.7A  (value not drawn)
WE-PD3 SMT Power Inductor, Type L, 15µH, 1.7A, 0.085Ω; Manufacturer Part Number: 74454115; Manufacturer: Wurth Elektronik; Case/Size Code: Type L; DC Resistance: 0.064Ω; Saturation Current: 3A; Self Resonant Frequency: 20MHz; Category: Shielded Power Inductors; Match Code: WE-PD3; ComponentLink1Description: Website Link; ComponentLink1URL: https://www.we-online.com/redexpert/article/74454115?ad; ComponentLink2Description: Datasheet Link; ComponentLink2URL: https://www.we-online.com/redexpert/spec/74454115?ad; Mount: Surface Mount; Operating Temperature Max: 125°C; Operating Temperature Min: -40°C; Packaging: Tape and Reel; Length: 12.7mm; Width: 10mm; Height: 4.9mm; DC Resistance Max: 0.085Ω; Inductance: 15µH; Rated Current: 1.7A
footprint WE-PD3_Type L
simulation model TypeL_74454115_15u
pins: 1, 2

## 74454122
designator L?, comment 22µH, 1.4A  (value not drawn)
WE-PD3 SMT Power Inductor, Type L, 22µH, 1.4A, 0.1Ω; Manufacturer Part Number: 74454122; Manufacturer: Wurth Elektronik; Case/Size Code: Type L; DC Resistance: 0.076Ω; Saturation Current: 2.3A; Self Resonant Frequency: 16MHz; Category: Shielded Power Inductors; Match Code: WE-PD3; ComponentLink1Description: Website Link; ComponentLink1URL: https://www.we-online.com/redexpert/article/74454122?ad; ComponentLink2Description: Datasheet Link; ComponentLink2URL: https://www.we-online.com/redexpert/spec/74454122?ad; Mount: Surface Mount; Operating Temperature Max: 125°C; Operating Temperature Min: -40°C; Packaging: Tape and Reel; Length: 12.7mm; Width: 10mm; Height: 4.9mm; DC Resistance Max: 0.1Ω; Inductance: 22µH; Rated Current: 1.4A
footprint WE-PD3_Type L
simulation model TypeL_74454122_22u
pins: 1, 2

## 74454133
designator L?, comment 33µH, 1.2A  (value not drawn)
WE-PD3 SMT Power Inductor, Type L, 33µH, 1.2A, 0.16Ω; Manufacturer Part Number: 74454133; Manufacturer: Wurth Elektronik; Case/Size Code: Type L; DC Resistance: 0.127Ω; Saturation Current: 1.8A; Self Resonant Frequency: 12MHz; Category: Shielded Power Inductors; Match Code: WE-PD3; ComponentLink1Description: Website Link; ComponentLink1URL: https://www.we-online.com/redexpert/article/74454133?ad; ComponentLink2Description: Datasheet Link; ComponentLink2URL: https://www.we-online.com/redexpert/spec/74454133?ad; Mount: Surface Mount; Operating Temperature Max: 125°C; Operating Temperature Min: -40°C; Packaging: Tape and Reel; Length: 12.7mm; Width: 10mm; Height: 4.9mm; DC Resistance Max: 0.16Ω; Inductance: 33µH; Rated Current: 1.2A
footprint WE-PD3_Type L
simulation model TypeL_74454133_33u
pins: 1, 2

## 74454147
designator L?, comment 47µH, 1A  (value not drawn)
WE-PD3 SMT Power Inductor, Type L, 47µH, 1A, 0.19Ω; Manufacturer Part Number: 74454147; Manufacturer: Wurth Elektronik; Case/Size Code: Type L; DC Resistance: 0.158Ω; Saturation Current: 1.4A; Self Resonant Frequency: 10MHz; Category: Shielded Power Inductors; Match Code: WE-PD3; ComponentLink1Description: Website Link; ComponentLink1URL: https://www.we-online.com/redexpert/article/74454147?ad; ComponentLink2Description: Datasheet Link; ComponentLink2URL: https://www.we-online.com/redexpert/spec/74454147?ad; Mount: Surface Mount; Operating Temperature Max: 125°C; Operating Temperature Min: -40°C; Packaging: Tape and Reel; Length: 12.7mm; Width: 10mm; Height: 4.9mm; DC Resistance Max: 0.19Ω; Inductance: 47µH; Rated Current: 1A
footprint WE-PD3_Type L
simulation model TypeL_74454147_47u
pins: 1, 2

## 74454168
designator L?, comment 68µH, 0.82A  (value not drawn)
WE-PD3 SMT Power Inductor, Type L, 68µH, 0.82A, 0.34Ω; Manufacturer Part Number: 74454168; Manufacturer: Wurth Elektronik; Case/Size Code: Type L; DC Resistance: 0.285Ω; Saturation Current: 1.35A; Self Resonant Frequency: 8MHz; Category: Shielded Power Inductors; Match Code: WE-PD3; ComponentLink1Description: Website Link; ComponentLink1URL: https://www.we-online.com/redexpert/article/74454168?ad; ComponentLink2Description: Datasheet Link; ComponentLink2URL: https://www.we-online.com/redexpert/spec/74454168?ad; Mount: Surface Mount; Operating Temperature Max: 125°C; Operating Temperature Min: -40°C; Packaging: Tape and Reel; Length: 12.7mm; Width: 10mm; Height: 4.9mm; DC Resistance Max: 0.34Ω; Inductance: 68µH; Rated Current: 0.82A
footprint WE-PD3_Type L
simulation model TypeL_74454168_68u
pins: 1, 2

## 74454215
designator L?, comment 150µH, 0.55A  (value not drawn)
WE-PD3 SMT Power Inductor, Type L, 150µH, 0.55A, 0.52Ω; Manufacturer Part Number: 74454215; Manufacturer: Wurth Elektronik; Case/Size Code: Type L; DC Resistance: 0.456Ω; Saturation Current: 0.8A; Self Resonant Frequency: 6MHz; Category: Shielded Power Inductors; Match Code: WE-PD3; ComponentLink1Description: Website Link; ComponentLink1URL: https://www.we-online.com/redexpert/article/74454215?ad; ComponentLink2Description: Datasheet Link; ComponentLink2URL: https://www.we-online.com/redexpert/spec/74454215?ad; Mount: Surface Mount; Operating Temperature Max: 125°C; Operating Temperature Min: -40°C; Packaging: Tape and Reel; Length: 12.7mm; Width: 10mm; Height: 4.9mm; DC Resistance Max: 0.52Ω; Inductance: 150µH; Rated Current: 0.55A
footprint WE-PD3_Type L
simulation model TypeL_74454215_150u
pins: 1, 2

## 74454220
designator L?, comment 220µH, 0.45A  (value not drawn)
WE-PD3 SMT Power Inductor, Type L, 220µH, 0.45A, 0.8Ω; Manufacturer Part Number: 74454220; Manufacturer: Wurth Elektronik; Case/Size Code: Type L; DC Resistance: 0.683Ω; Saturation Current: 0.7A; Self Resonant Frequency: 4.5MHz; Category: Shielded Power Inductors; Match Code: WE-PD3; ComponentLink1Description: Website Link; ComponentLink1URL: https://www.we-online.com/redexpert/article/74454220?ad; ComponentLink2Description: Datasheet Link; ComponentLink2URL: https://www.we-online.com/redexpert/spec/74454220?ad; Mount: Surface Mount; Operating Temperature Max: 125°C; Operating Temperature Min: -40°C; Packaging: Tape and Reel; Length: 12.7mm; Width: 10mm; Height: 4.9mm; DC Resistance Max: 0.8Ω; Inductance: 220µH; Rated Current: 0.45A
footprint WE-PD3_Type L
simulation model TypeL_74454220_220u
pins: 1, 2

## 74454233
designator L?, comment 330µH, 0.35A  (value not drawn)
WE-PD3 SMT Power Inductor, Type L, 330µH, 0.35A, 1.2Ω; Manufacturer Part Number: 74454233; Manufacturer: Wurth Elektronik; Case/Size Code: Type L; DC Resistance: 1.044Ω; Saturation Current: 0.6A; Self Resonant Frequency: 3.4MHz; Category: Shielded Power Inductors; Match Code: WE-PD3; ComponentLink1Description: Website Link; ComponentLink1URL: https://www.we-online.com/redexpert/article/74454233?ad; ComponentLink2Description: Datasheet Link; ComponentLink2URL: https://www.we-online.com/redexpert/spec/74454233?ad; Mount: Surface Mount; Operating Temperature Max: 125°C; Operating Temperature Min: -40°C; Packaging: Tape and Reel; Length: 12.7mm; Width: 10mm; Height: 4.9mm; DC Resistance Max: 1.2Ω; Inductance: 330µH; Rated Current: 0.35A
footprint WE-PD3_Type L
simulation model TypeL_74454233_330u
pins: 1, 2

## 74454239
designator L?, comment 390µH, 0.33A  (value not drawn)
WE-PD3 SMT Power Inductor, Type L, 390µH, 0.33A, 1.4Ω; Manufacturer Part Number: 74454239; Manufacturer: Wurth Elektronik; Case/Size Code: Type L; DC Resistance: 1.175Ω; Saturation Current: 0.55A; Self Resonant Frequency: 3.3MHz; Category: Shielded Power Inductors; Match Code: WE-PD3; ComponentLink1Description: Website Link; ComponentLink1URL: https://www.we-online.com/redexpert/article/74454239?ad; ComponentLink2Description: Datasheet Link; ComponentLink2URL: https://www.we-online.com/redexpert/spec/74454239?ad; Mount: Surface Mount; Operating Temperature Max: 125°C; Operating Temperature Min: -40°C; Packaging: Tape and Reel; Length: 12.7mm; Width: 10mm; Height: 4.9mm; DC Resistance Max: 1.4Ω; Inductance: 390µH; Rated Current: 0.33A
footprint WE-PD3_Type L
simulation model TypeL_74454239_390u
pins: 1, 2

## 74454247
designator L?, comment 470µH, 0.3A  (value not drawn)
WE-PD3 SMT Power Inductor, Type L, 470µH, 0.3A, 1.6Ω; Manufacturer Part Number: 74454247; Manufacturer: Wurth Elektronik; Case/Size Code: Type L; DC Resistance: 1.35Ω; Saturation Current: 0.5A; Self Resonant Frequency: 3.2MHz; Category: Shielded Power Inductors; Match Code: WE-PD3; ComponentLink1Description: Website Link; ComponentLink1URL: https://www.we-online.com/redexpert/article/74454247?ad; ComponentLink2Description: Datasheet Link; ComponentLink2URL: https://www.we-online.com/redexpert/spec/74454247?ad; Mount: Surface Mount; Operating Temperature Max: 125°C; Operating Temperature Min: -40°C; Packaging: Tape and Reel; Length: 12.7mm; Width: 10mm; Height: 4.9mm; DC Resistance Max: 1.6Ω; Inductance: 470µH; Rated Current: 0.3A
footprint WE-PD3_Type L
simulation model TypeL_74454247_470u
pins: 1, 2

## 74454268
designator L?, comment 680µH, 0.26A  (value not drawn)
WE-PD3 SMT Power Inductor, Type L, 680µH, 0.26A, 2.3Ω; Manufacturer Part Number: 74454268; Manufacturer: Wurth Elektronik; Case/Size Code: Type L; DC Resistance: 1.94Ω; Saturation Current: 0.4A; Self Resonant Frequency: 2.5MHz; Category: Shielded Power Inductors; Match Code: WE-PD3; ComponentLink1Description: Website Link; ComponentLink1URL: https://www.we-online.com/redexpert/article/74454268?ad; ComponentLink2Description: Datasheet Link; ComponentLink2URL: https://www.we-online.com/redexpert/spec/74454268?ad; Mount: Surface Mount; Operating Temperature Max: 125°C; Operating Temperature Min: -40°C; Packaging: Tape and Reel; Length: 12.7mm; Width: 10mm; Height: 4.9mm; DC Resistance Max: 2.3Ω; Inductance: 680µH; Rated Current: 0.26A
footprint WE-PD3_Type L
simulation model TypeL_74454268_680u
pins: 1, 2

## 74459010
designator L?, comment 10µH, 3.9A  (value not drawn)
WE-PD3 SMT Power Inductor, Type X, 10µH, 3.9A, 0.04Ω; Manufacturer Part Number: 74459010; Manufacturer: Wurth Elektronik; Case/Size Code: Type X; DC Resistance: 0.023Ω; Saturation Current: 8A; Self Resonant Frequency: 20MHz; Category: Shielded Power Inductors; Match Code: WE-PD3; ComponentLink1Description: Website Link; ComponentLink1URL: https://www.we-online.com/redexpert/article/74459010?ad; ComponentLink2Description: Datasheet Link; ComponentLink2URL: https://www.we-online.com/redexpert/spec/74459010?ad; Mount: Surface Mount; Operating Temperature Max: 125°C; Operating Temperature Min: -40°C; Packaging: Tape and Reel; Length: 18.54mm; Width: 15.24mm; Height: 7.62mm; DC Resistance Max: 0.04Ω; Inductance: 10µH; Rated Current: 3.9A
footprint WE-PD3_Type X
simulation model TypeX_74459010_10u
pins: 1, 2

## 74459115
designator L?, comment 15µH, 3.5A  (value not drawn)
WE-PD3 SMT Power Inductor, Type X, 15µH, 3.5A, 0.048Ω; Manufacturer Part Number: 74459115; Manufacturer: Wurth Elektronik; Case/Size Code: Type X; DC Resistance: 0.03Ω; Saturation Current: 7A; Self Resonant Frequency: 16.5MHz; Category: Shielded Power Inductors; Match Code: WE-PD3; ComponentLink1Description: Website Link; ComponentLink1URL: https://www.we-online.com/redexpert/article/74459115?ad; ComponentLink2Description: Datasheet Link; ComponentLink2URL: https://www.we-online.com/redexpert/spec/74459115?ad; Mount: Surface Mount; Operating Temperature Max: 125°C; Operating Temperature Min: -40°C; Packaging: Tape and Reel; Length: 18.54mm; Width: 15.24mm; Height: 7.62mm; DC Resistance Max: 0.048Ω; Inductance: 15µH; Rated Current: 3.5A
footprint WE-PD3_Type X
simulation model TypeX_74459115_15u
pins: 1, 2